# Altium footprint library WE-SL2.PcbLib: 1 footprints
Each footprint in its own frame and in the unit in brackets; x right, y up, seen from the top. Pads: shape width x height; smd on the part's side, far side on the other; paste and mask are expansions set on the pad; w line width, h text height; cw(c..) or ccw(c..) is an arc to the next point about the centre after c.
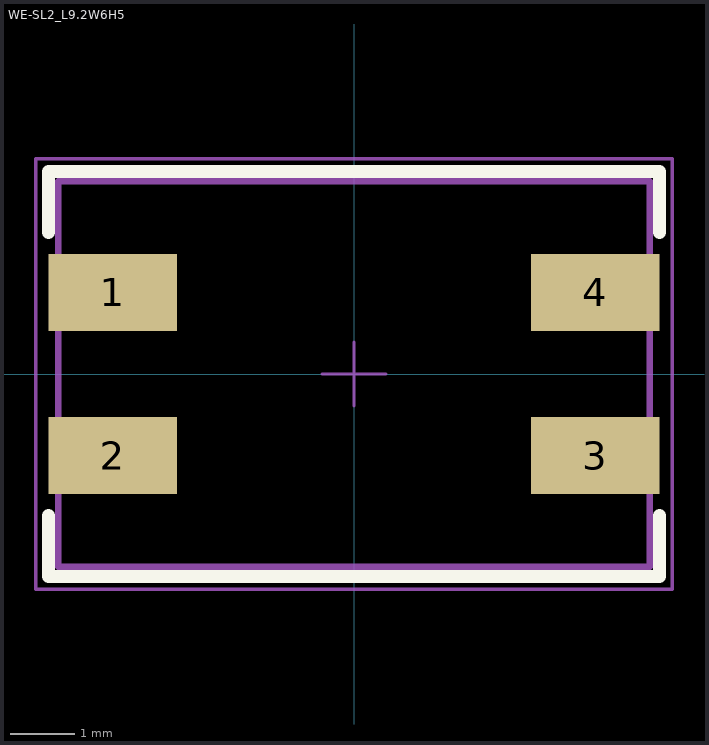
[diagram p0: the footprint, top view; thin cyan lines are the x and y axes]

## WE-SL2_L9.2W6H5 [mm] "SMD Inductor, 4-Leads, Body 9.2x6mm"
height 5
pads (4):
  rect 2x1.2 smd: 1(-3.75,1.27) 2(-3.75,-1.27) 3(3.75,-1.27) 4(3.75,1.27)
Top Overlay:
  lines w0.2: -4.75,-2.2 -4.75,-3.15 4.75,-3.15 4.75,-2.2 ; -4.75,2.2 -4.75,3.15 4.75,3.15 4.75,2.2
Top Designator:
  text ".Designator" at -7.498,-0.5 h1.5
Top Component Outline:
  lines w0.1: -4.6,-3 4.6,-3 4.6,3 -4.6,3 -4.6,-3
Top 3D Body:
  lines w0.1: -4.6,-3 -4.6,3 4.6,3 4.6,-3 -4.6,-3
Top Courtyard:
  lines w0.05: -0.5,0 0.5,0 ; 0,-0.5 0,0.5 ; -4.95,-3.35 -4.95,3.35 4.95,3.35 4.95,-3.35 -4.95,-3.35
3D body "74422x.stp": height 5, standoff 0, extent -4.6,-3 4.6,3